# Altium schematic symbol library Crystals.SchLib: 1 symbol
Pins are listed as number, name and electrical type; pins without a type are passive.

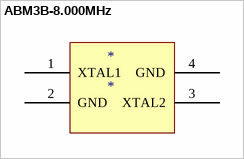
[diagram p0: symbol ABM3B-8.000MHz]

## ABM3B-8.000MHz
designator *
footprint OSCSC500X320X110-4N
pins: 1 XTAL1, 2 GND, 3 XTAL2, 4 GND